# EAGLE library part ADS8353QPWRQ1 (library ads8353)
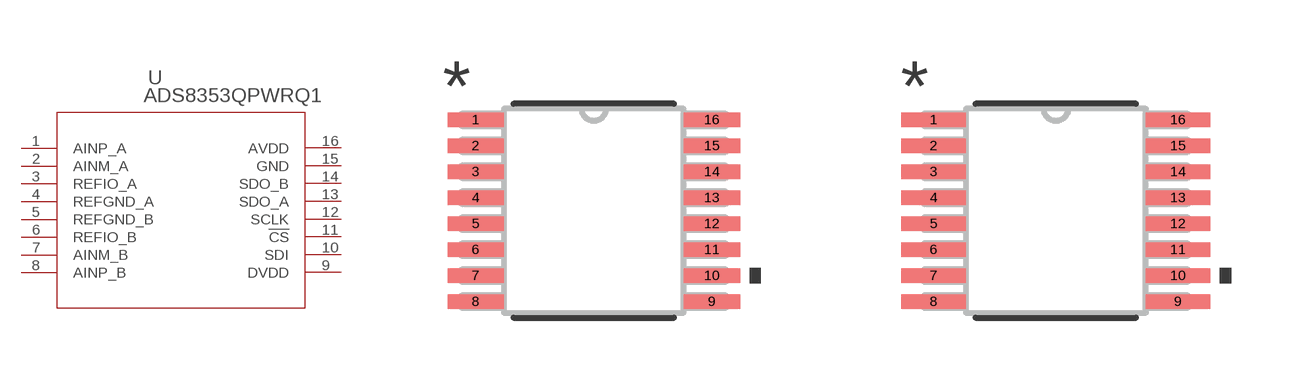
[diagram p0: symbol with the pads of TSSOP16_PW_TEX; footprints TSSOP16_PW_TEX, TSSOP16_PW_TEX-M]

Designator prefix U

## ADS8353QPWRQ1TSSOP16_PW_TEX (Copyright: Copyright (C) 2026 Ultra Librarian. All rights reserved.; Datasheet: https://www.ti.com/lit/gpn/ads8353-q1; Description: Automotive 16-bit 600-kSPS 2-channel simultaneous-sampling SAR ADC with single-ended inputs 16-TSSOP -40 to 125; Manufacturer_Name: Texas Instruments; Manufacturer_Part_Number: ADS8353QPWRQ1)  [TSSOP16_PW_TEX]
1  AINP_A  in
2  AINM_A  in
3  REFIO_A
4  REFGND_A  pas
5  REFGND_B  pas
6  REFIO_B
7  AINM_B  in
8  AINP_B  in
9  DVDD  pwr
10  SDI  in
11  !CS  in
12  SCLK  in
13  SDO_A  out
14  SDO_B  out
15  GND  pas
16  AVDD  pwr

## ADS8353QPWRQ1TSSOP16_PW_TEX-M (Copyright: Copyright (C) 2026 Ultra Librarian. All rights reserved.; Datasheet: https://www.ti.com/lit/gpn/ads8353-q1; Description: Automotive 16-bit 600-kSPS 2-channel simultaneous-sampling SAR ADC with single-ended inputs 16-TSSOP -40 to 125; Manufacturer_Name: Texas Instruments; Manufacturer_Part_Number: ADS8353QPWRQ1)  [TSSOP16_PW_TEX-M]
Pads as for TSSOP16_PW_TEX

## ADS8353QPWRQ1TSSOP16_PW_TEX-L (Copyright: Copyright (C) 2026 Ultra Librarian. All rights reserved.; Datasheet: https://www.ti.com/lit/gpn/ads8353-q1; Description: Automotive 16-bit 600-kSPS 2-channel simultaneous-sampling SAR ADC with single-ended inputs 16-TSSOP -40 to 125; Manufacturer_Name: Texas Instruments; Manufacturer_Part_Number: ADS8353QPWRQ1)  [TSSOP16_PW_TEX-L]
Pads as for TSSOP16_PW_TEX

## Footprint TSSOP16_PW_TEX (pad centres in mm)
smd 1.41 x 0.356: 1 -2.953,2.275; 2 -2.953,1.625; 3 -2.953,0.975; 4 -2.953,0.325; 5 -2.953,-0.325; 6 -2.953,-0.975; 7 -2.953,-1.625; 8 -2.953,-2.275; 9 2.953,-2.275; 10 2.953,-1.625; 11 2.953,-0.975; 12 2.953,-0.325; 13 2.953,0.325; 14 2.953,0.975; 15 2.953,1.625; 16 2.953,2.275

## Footprint TSSOP16_PW_TEX-M (pad centres in mm)
smd 1.613 x 0.356: 1 -3.054,2.275; 2 -3.054,1.625; 3 -3.054,0.975; 4 -3.054,0.325; 5 -3.054,-0.325; 6 -3.054,-0.975; 7 -3.054,-1.625; 8 -3.054,-2.275; 9 3.054,-2.275; 10 3.054,-1.625; 11 3.054,-0.975; 12 3.054,-0.325; 13 3.054,0.325; 14 3.054,0.975; 15 3.054,1.625; 16 3.054,2.275

## Footprint TSSOP16_PW_TEX-L (pad centres in mm)
smd 1.168 x 0.305: 1 -2.87,2.275; 2 -2.87,1.625; 3 -2.87,0.975; 4 -2.87,0.325; 5 -2.87,-0.325; 6 -2.87,-0.975; 7 -2.87,-1.625; 8 -2.87,-2.275; 9 2.87,-2.275; 10 2.87,-1.625; 11 2.87,-0.975; 12 2.87,-0.325; 13 2.87,0.325; 14 2.87,0.975; 15 2.87,1.625; 16 2.87,2.275